# Altium footprint library CAPPOL-16x25.PcbLib: 1 footprints
Each footprint in its own frame and in the unit in brackets; x right, y up, seen from the top. Pads: shape width x height; smd on the part's side, far side on the other; paste and mask are expansions set on the pad; w line width, h text height; cw(c..) or ccw(c..) is an arc to the next point about the centre after c.
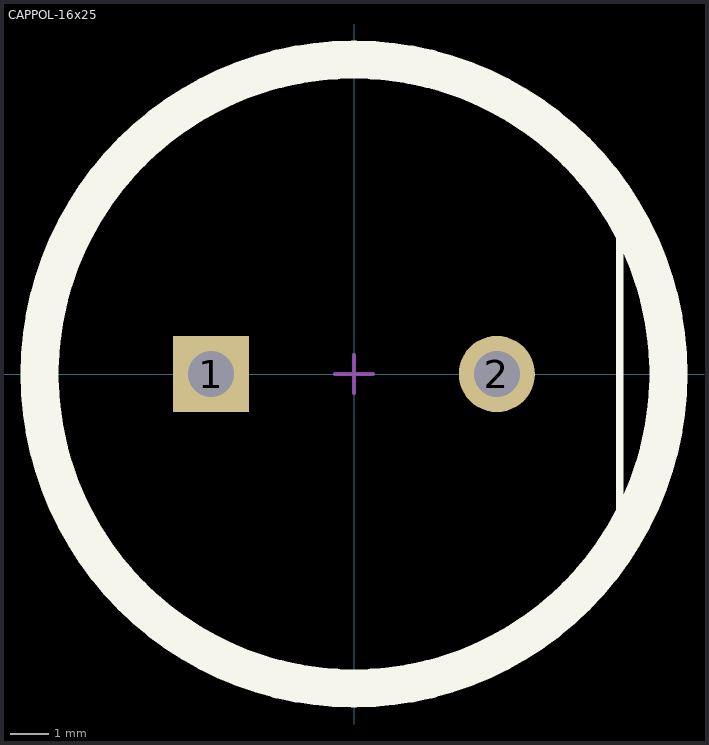
[diagram p0: the footprint, top view; thin cyan lines are the x and y axes]

## CAPPOL-16x25 [mm]
height 0.95
pads (2):
  rect 2x2 hole 1.2 paste-1000 mask+0: 1(-3.75,0)
  round 2 hole 1.2 paste-1000 mask+0: 2(3.75,0)
Top Overlay:
  circle w1: c0,0 r8.25
  lines w0.2: 6.975,-4.125 6.975,4.125
Top 3D Body:
  circle w0.15: c0,0 r8.25
Top Assembly:
  lines w0.1: -0.5,0 0.5,0 ; 0,-0.5 0,0.5
Top Courtyard:
  lines w0.2: -8.35,0 cw(c0,0) 8.35,0 cw(c0,0) -8.35,0
Board:
  text ".Designator" at 0,0.187 h1
3D body "Cap_Panasonic_EEUED2C151E_eec.STEP": height 0.25, standoff 0, extent -8.35,-8.35 8.35,8.35